# Altium footprint library Power_DCDC_Isolated_Converters_MORNSUN.PcbLib: 1 footprints
Each footprint in its own frame and in the unit in brackets; x right, y up, seen from the top. Pads: shape width x height; smd on the part's side, far side on the other; paste and mask are expansions set on the pad; w line width, h text height; cw(c..) or ccw(c..) is an arc to the next point about the centre after c.
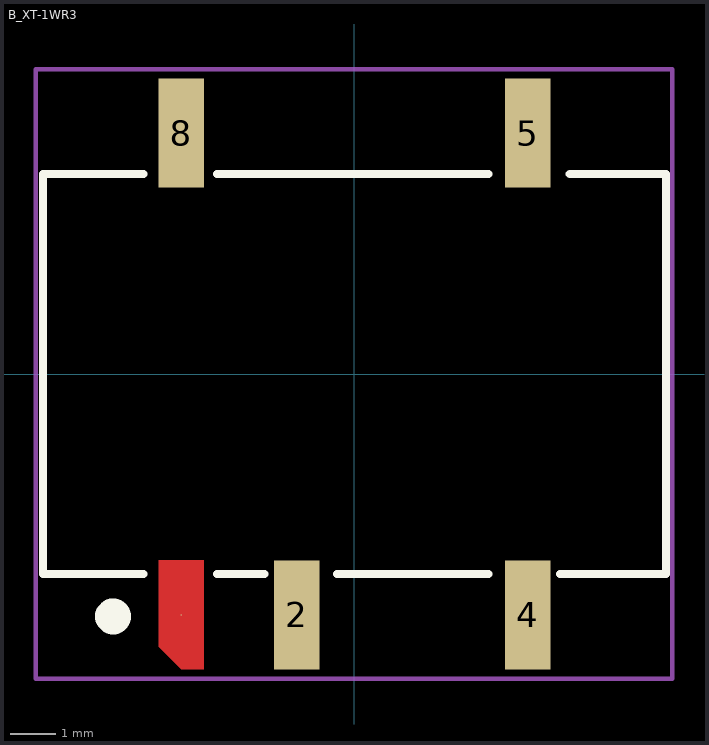
[diagram p0: the footprint, top view; thin cyan lines are the x and y axes]

## B_XT-1WR3 [mm]
height 7.25
pads (5):
  round 0.025 smd: 1(-3.8,-5.3)
  rect 1x2.4 smd: 2(-1.26,-5.3) 4(3.82,-5.3) 5(3.82,5.3) 8(-3.8,5.3)
Top Layer:
  region: -4.3,-4.1 -3.3,-4.1 -3.3,-6.5 -3.8,-6.5 -4.3,-6
Top Overlay:
  circle w0.6: c-5.301,-5.334 r0.094
  lines w0.178: -4.632,-4.4 -6.84,-4.4 -6.84,4.4 -4.632,4.4 ; -3.014,-4.4 -1.971,-4.4 ; -3.014,4.4 2.959,4.4 ; -0.37,-4.4 2.959,-4.4 ; 4.531,-4.4 6.86,-4.4 6.86,4.4 4.746,4.4
Top Comment:
  text ".Comment" at -1.702,-0.376 h1.2
Top Designator:
  text ".Designator" at -2.579,-0.334 h1.5
Top Border:
  lines w0.1: -7,-6.7 7,-6.7 7,6.7 -7,6.7 -7,-6.7
3D body "B05_XT-1WR3.stp": height 7.26, standoff 0.01, extent -6.6,-5.685 6.6,5.715